# Altium footprint library ATmega328PU.PcbLib: 1 footprints
Each footprint in its own frame and in the unit in brackets; x right, y up, seen from the top. Pads: shape width x height; smd on the part's side, far side on the other; paste and mask are expansions set on the pad; w line width, h text height; cw(c..) or ccw(c..) is an arc to the next point about the centre after c.
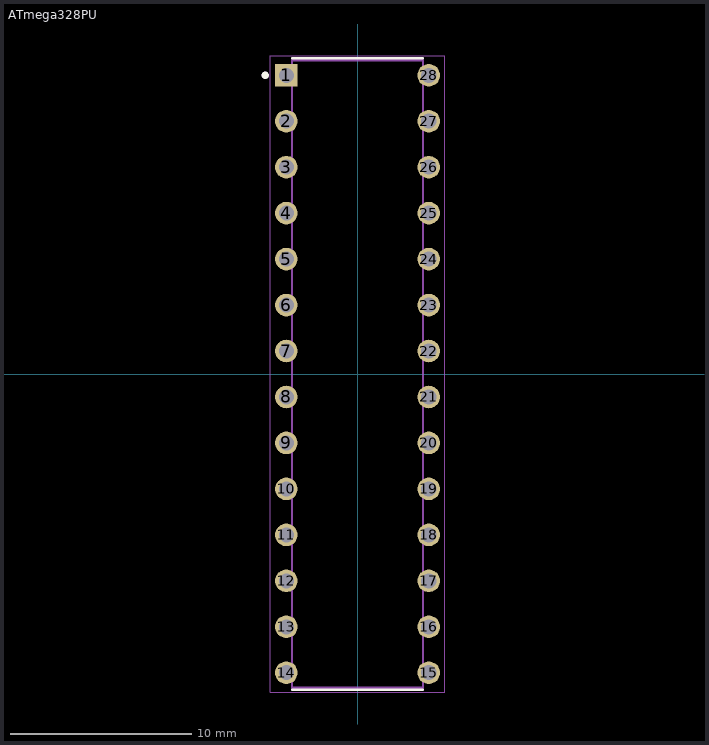
[diagram p0: the footprint, top view; thin cyan lines are the x and y axes]

## ATmega328PU [mm]
pads (28):
  rect 1.25x1.25 / inner round 1.25 / far side rect 1.25x1.25 hole 0.83: 1(-3.937,16.51)
  round 1.25 hole 0.83: 2(-3.937,13.97) 3(-3.937,11.43) 4(-3.937,8.89) 5(-3.937,6.35) 6(-3.937,3.81) 7(-3.937,1.27) 8(-3.937,-1.27) 9(-3.937,-3.81) 10(-3.937,-6.35) 11(-3.937,-8.89) 12(-3.937,-11.43) 13(-3.937,-13.97) 14(-3.937,-16.51) 15(3.937,-16.51) 16(3.937,-13.97) 17(3.937,-11.43) 18(3.937,-8.89) 19(3.937,-6.35) 20(3.937,-3.81) 21(3.937,-1.27) 22(3.937,1.27) 23(3.937,3.81) 24(3.937,6.35) 25(3.937,8.89) 26(3.937,11.43) 27(3.937,13.97) 28(3.937,16.51)
Top Overlay:
  circle w0.2: c-5.1,16.51 r0.1
  lines w0.127: -3.619,-17.455 3.619,-17.455 ; -3.619,17.455 3.619,17.455
Mechanical 13:
  circle w0.2: c-5.1,16.51 r0.1
  lines w0.127: -3.619,-17.335 -3.619,17.335 3.619,17.335 3.619,-17.335 -3.619,-17.335
Mechanical 15:
  lines w0.05: -4.812,-17.585 -4.812,17.585 4.812,17.585 4.812,-17.585 -4.812,-17.585
3D body "step_temp.STEP": height 4.57, standoff -3.43, extent -3.95,-17.335 3.95,17.335